# Altium schematic symbol library N-Channel.SchLib: 1 symbol
Pins are listed as number, name and electrical type; pins without a type are passive.

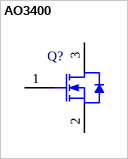
[diagram p0: symbol AO3400]

## AO3400
designator Q?
N-Channel 30V 5.8A (Ta) 1.4W (Ta) Surface Mount SOT-23-3; Manufacturer: Alpha & Omega Semiconductor Inc.; PartNumber: AO3400; Supplier 1: Digi-Key; Supplier Part Number 1: AO3400-ND; Package: SOT-23-3; PackageDescription: Small Outline Transistor 3 Leads
footprint SOT95P270X125-3M (SOT23, 3-Leads, Body 3.1x2.8mm (max), Pitch 0.95mm, IPC Low Density)
footprint SOT95P270X125-3N (SOT23, 3-Leads, Body 3.1x2.8mm (max), Pitch 0.95mm, IPC Medium Density)
footprint SOT95P270X125-3L (SOT23, 3-Leads, Body 3.1x2.8mm (max), Pitch 0.95mm, IPC High Density)
pins: 1 G "gate", 2 S "source", 3 D "drain"